# Altium integrated library Protection.IntLib: 7 symbols
Pins are listed as number, name and electrical type; pins without a type are passive.

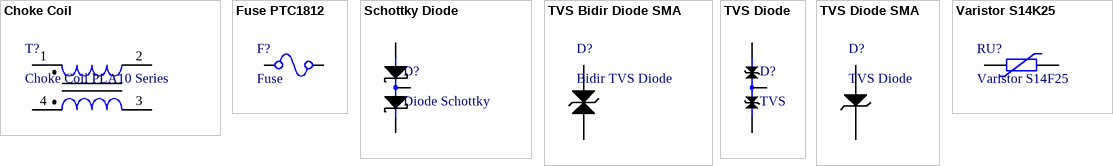
[diagram p0: symbols Choke Coil to Varistor S14K25]

## Choke Coil
designator T?, comment Choke Coil PLA10 Series
Common Mode Rejection Choke Coil LA10 Series
footprint PLA10
pins: 1, 2, 3, 4

## Fuse PTC1812
designator F?, comment Fuse
Fuse PTC 1812 Thermoresistor
footprint PTC1812 (Fuse PTC Thermoresistor)
pins: 1, 2

## Schottky Diode
designator D?, comment Diode Schottky
2-Diode Schottky
footprint SOT23
pins: 1, 2, 3

## TVS Bidir Diode SMA
designator D?, comment Bidir TVS Diode
footprint DO-214AS
pins: 1, 2

## TVS Diode
designator D?, comment TVS
Dual bidirectional voltage supresor
footprint SOT23
pins: 1, 2, 3

## TVS Diode SMA
designator D?, comment TVS Diode
footprint DO-214AS
pins: 1, 2

## Varistor S14K25
designator RU?, comment Varistor S14F25
varistor
footprint S14K25 (Varistor)
pins: 1, 2